# EAGLE library part TINYDUINO_PROTOBOARD (library SSI)
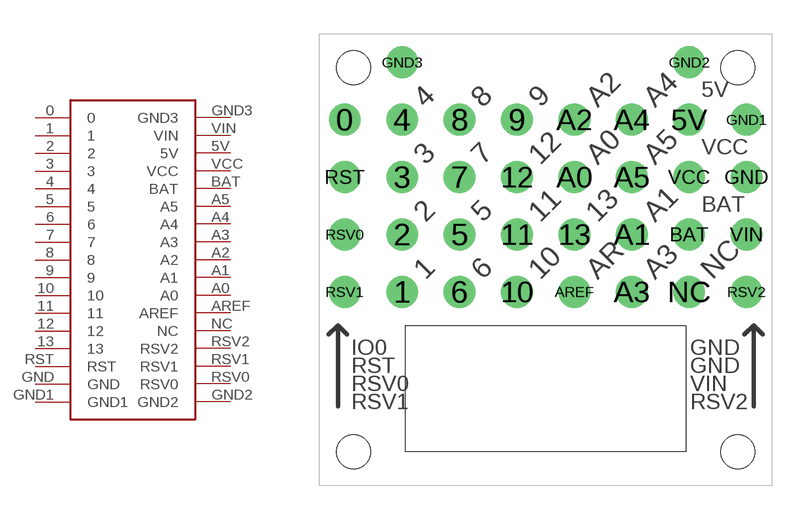
[diagram p9: symbol with the pads of TINYDUINO_PROTOBOARD; footprint TINYDUINO_PROTOBOARD]

Designator prefix -

## TINYDUINO_PROTOBOARD  [TINYDUINO_PROTOBOARD]
0  0
1  1
2  2
3  3
4  4
5  5
5V  5V
6  6
7  7
8  8
9  9
10  10
11  11
12  12
13  13
A0  A0
A1  A1
A2  A2
A3  A3
A4  A4
A5  A5
AREF  AREF
BAT  BAT
GND  GND
GND1  GND1
GND2  GND2
GND3  GND3
NC  NC
RST  RST
RSV0  RSV0
RSV1  RSV1
RSV2  RSV2
VCC  VCC
VIN  VIN

## Footprint TINYDUINO_PROTOBOARD (pad centres in mm)
drill 0.9: 0 1.11,16.2; 1 3.65,8.58; 2 3.65,11.12; 3 3.65,13.66; 4 3.65,16.2; 5 6.19,11.12; 5V 16.35,16.2; 6 6.19,8.58; 7 6.19,13.66; 8 6.19,16.2; 9 8.73,16.2; 10 8.73,8.58; 11 8.73,11.12; 12 8.73,13.66; 13 11.27,11.12; A0 11.27,13.66; A1 13.81,11.12; A2 11.27,16.2; A3 13.81,8.58; A4 13.81,16.2; A5 13.81,13.66; AREF 11.27,8.58; BAT 16.35,11.12; GND 18.89,13.66; GND1 18.89,16.2; GND2 16.35,18.74; GND3 3.65,18.74; NC 16.35,8.58; RST 1.11,13.66; RSV0 1.11,11.12; RSV1 1.11,8.58; RSV2 18.89,8.58; VCC 16.35,13.66; VIN 18.89,11.12
hole 1.5 at 1.5,18.5
hole 1.5 at 18.5,18.5
hole 1.5 at 18.5,1.5
hole 1.5 at 1.5,1.5